# Altium footprint library ProtoStack_H750VBT.PcbLib: 87 footprints (part 5 of 6)
Each footprint in its own frame and in the unit in brackets; x right, y up, seen from the top. Pads: shape width x height; smd on the part's side, far side on the other; paste and mask are expansions set on the pad; w line width, h text height; cw(c..) or ccw(c..) is an arc to the next point about the centre after c.
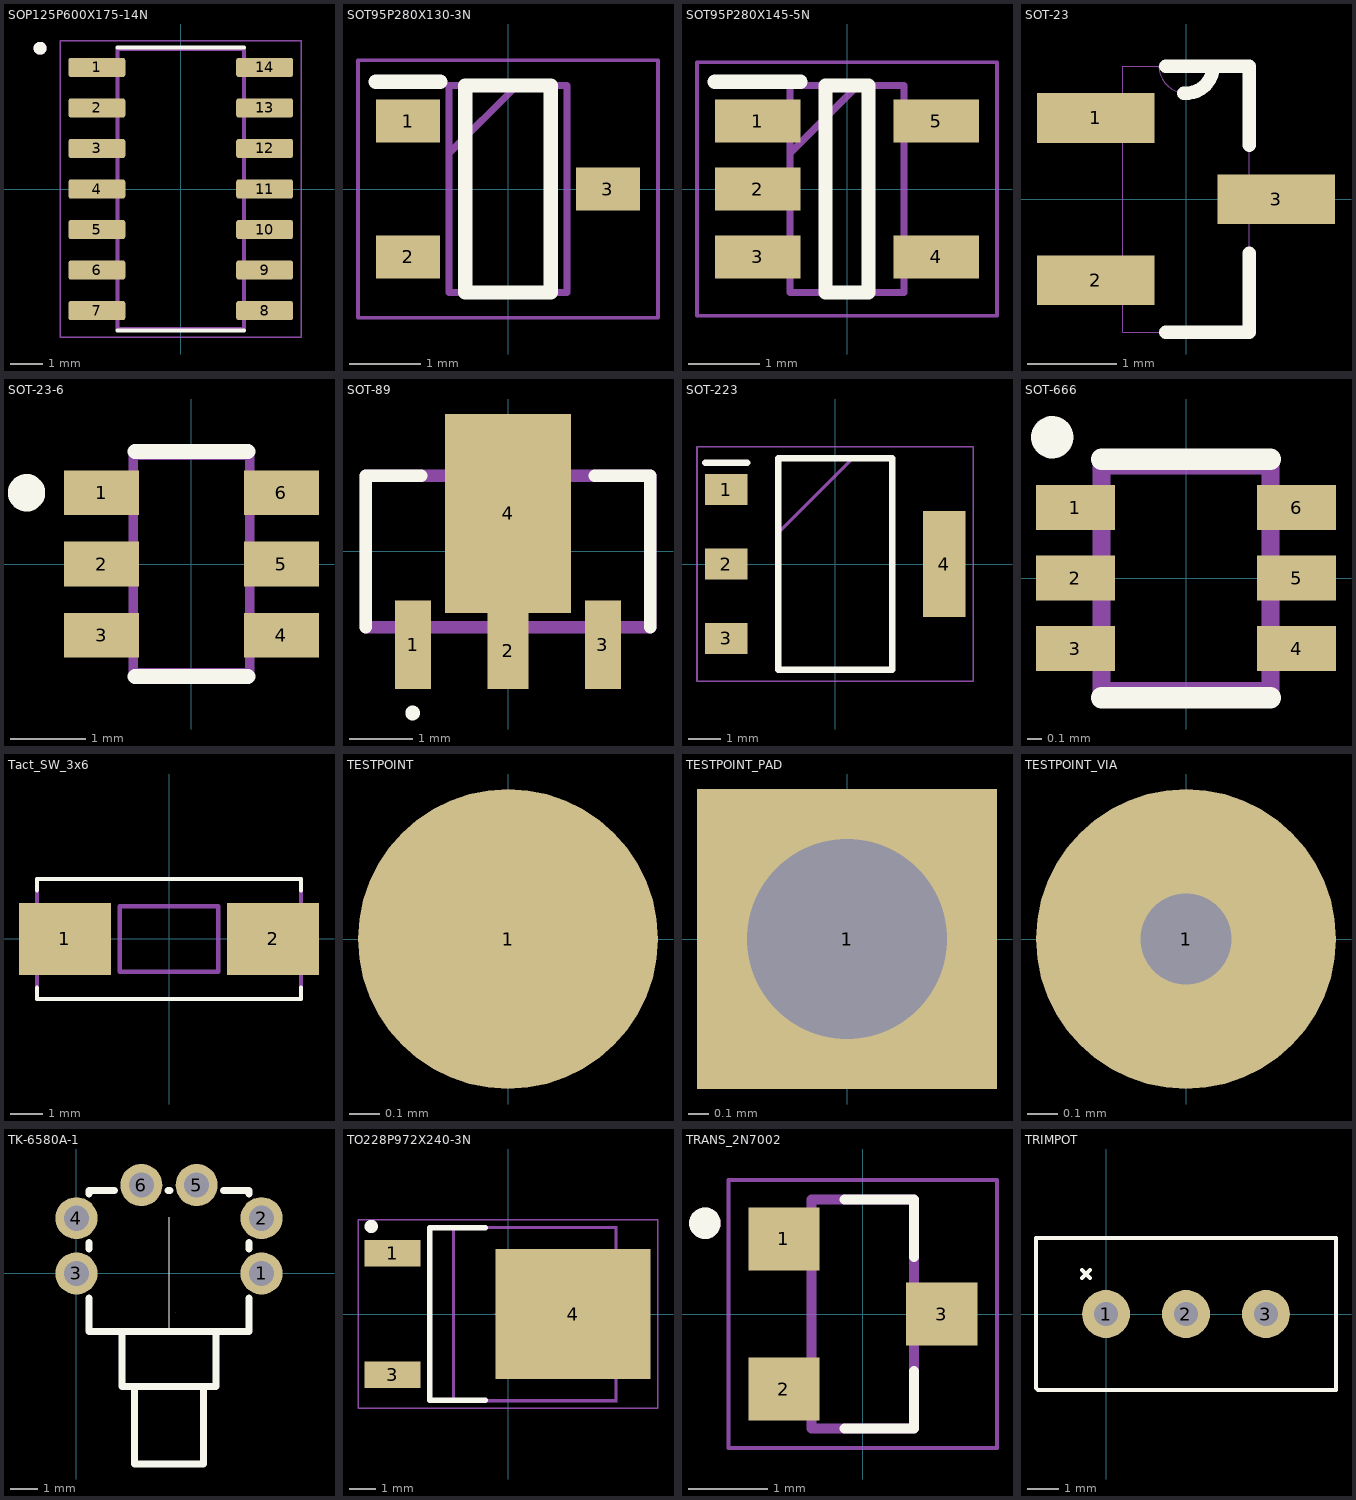
[diagram p4: the footprints below, top view; thin cyan lines are the x and y axes]

## SOP125P600X175-14N [mm]
height 1.75
pads (14):
  rrect25% 1.75x0.59 smd: 1(-2.585,3.75) 2(-2.585,2.5) 3(-2.585,1.25) 4(-2.585,0) 5(-2.585,-1.25) 6(-2.585,-2.5) 7(-2.585,-3.75) 8(2.585,-3.75) 9(2.585,-2.5) 10(2.585,-1.25) 11(2.585,0) 12(2.585,1.25) 13(2.585,2.5) 14(2.585,3.75)
Top Overlay:
  circle w0.2: c-4.335,4.34 r0.1
  lines w0.127: -1.95,-4.365 1.95,-4.365 ; -1.95,4.365 1.95,4.365
Mechanical 13:
  circle w0.2: c-4.335,4.34 r0.1
  lines w0.127: -1.95,-4.325 -1.95,4.325 1.95,4.325 1.95,-4.325 -1.95,-4.325
Mechanical 15:
  lines w0.05: -3.71,-4.575 -3.71,4.575 3.71,4.575 3.71,-4.575 -3.71,-4.575
3D body "step_temp.STEP": height 1.75, standoff 0, extent -3,-4.325 3,4.325

## SOT95P280X130-3N [mm]
pads (3):
  rect 0.9x0.6 smd: 1(-1.4,0.95) 2(-1.4,-0.95) 3(1.4,0)
Top Overlay:
  lines w0.2: -1.85,1.5 -0.95,1.5 ; -0.6,-1.45 0.6,-1.45 0.6,1.45 -0.6,1.45 -0.6,-1.45
Mechanical 13:
  lines w0.1: -0.825,0.5 0.125,1.45 ; -0.825,-1.45 0.825,-1.45 0.825,1.45 -0.825,1.45 -0.825,-1.45
Mechanical 15:
  lines w0.05: -2.1,-1.8 2.1,-1.8 2.1,1.8 -2.1,1.8 -2.1,-1.8
3D body "XC6206P182MR.stp": height 1.3, standoff 0, extent -1.4,-1.45 1.4,1.45

## SOT95P280X145-5N [mm]
pads (5):
  rect 1.2x0.6 smd: 1(-1.25,0.95) 2(-1.25,0) 3(-1.25,-0.95) 4(1.25,-0.95) 5(1.25,0.95)
Top Overlay:
  lines w0.2: -1.85,1.5 -0.65,1.5 ; -0.3,-1.45 0.3,-1.45 0.3,1.45 -0.3,1.45 -0.3,-1.45
Mechanical 13:
  lines w0.1: -0.8,0.5 0.15,1.45 ; -0.8,-1.45 0.8,-1.45 0.8,1.45 -0.8,1.45 -0.8,-1.45
Mechanical 15:
  lines w0.05: -2.1,-1.775 2.1,-1.775 2.1,1.775 -2.1,1.775 -2.1,-1.775
3D body "SN74LVC1G125DBVR.stp": height 1.2, standoff 0, extent -1.4,-1.45 1.4,1.45

## SOT-23 [mil]
pads (3):
  rect 52x22 smd: 1(-40,36) 2(-40,-36) 3(40,0)
Top Overlay:
  lines w6: -9,-59 28,-59 28,-24 ; -9,59 12,59 28,59 28,24 ; -1.04,47 ccw(c0,58.96) 12,58.96
Mechanical 1:
  lines w0: -28,-46 -49,-46 -49,-26 -28,-26 ; -28,-46 -28,-26 ; -28,-46 -28,-59 28,-59 28,-10 ; -28,-26 -28,26 ; -28,26 -49,26 -49,46 -28,46 ; -28,26 -28,46 ; -28,46 -28,59 -12,59 ; -12,59 ccw(c0,59) 12,59 ; -12,59 12,59 ; 12,59 28,59 28,10 ; 28,-10 49,-10 49,10 28,10 ; 28,-10 28,10
3D body "SC-59A.stp": height 57.09, standoff 0, extent -60,-61.02 58.11,61.02

## SOT-23-6 [mm]
pads (6):
  rect 1x0.6 smd: 1(-1.2,0.95) 2(-1.2,0) 3(-1.2,-0.95) 4(1.2,-0.95) 5(1.2,0) 6(1.2,0.95)
Top Overlay:
  circle w0.3: c-2.2,0.95 r0.1
  lines w0.2: -0.75,-1.5 0.75,-1.5 ; -0.75,1.5 0.75,1.5
Mechanical 1:
  region: -0.775,0.774 -1.603,0.774 -1.603,1.128 -0.775,1.128
  region: -0.775,-1.13 -1.603,-1.13 -1.603,-0.773 -0.775,-0.773
  region: -0.775,-0.178 -1.601,-0.178 -1.601,0.178 -0.775,0.178
  region: 0.776,-0.773 1.6,-0.773 1.6,-1.129 0.776,-1.129
  region: 0.775,1.128 1.6,1.128 1.6,0.773 0.775,0.773
  region: 0.775,0.178 1.6,0.178 1.6,-0.178 0.775,-0.178
  lines w0.127: -0.775,-1.45 0.775,-1.45 0.775,1.45 -0.775,1.45 -0.775,-1.45
3D body "SOT23-6.stp": height 1.2, standoff 0.02, extent -1.418,-1.5 1.418,1.5

## SOT-89 [mm]
pads (4):
  rect 0.57x1.4 smd mask+0.051: 1(-1.5,-1.475) 3(1.5,-1.475)
  rect 0.65x1.2 smd mask+0.051: 2(0,-1.575)
  rect 2x3.15 smd mask+0.051: 4(0,0.6)
Top Overlay:
  circle w0.2: c-1.51,-2.558 r0.016
  lines w0.2: -2.25,-1.2 -2.25,1.2 -1.373,1.2 ; 1.373,1.2 2.25,1.2 2.25,-1.2
Mechanical 13:
  lines w0.2: -2.25,-1.2 2.25,-1.2 2.25,1.2 -2.25,1.2 -2.25,-1.2
3D body "LND150N8-G--3DModel-STEP-56544.STEP": height 1.61, standoff 0.01, extent -2.25,-2.046 2.25,2.049

## SOT-223 [mm]
pads (4):
  rect 1.3x0.95 smd: 1(-3.35,2.29) 2(-3.35,0) 3(-3.35,-2.29)
  rect 1.3x3.25 smd: 4(3.35,0)
Top Overlay:
  lines w0.2: -4,3.115 -2.7,3.115 ; -1.752,-3.252 -1.752,3.252 1.752,3.252 1.752,-3.252 -1.752,-3.252
Mechanical 13:
  lines w0.1: -1.752,0.962 0.538,3.252 ; -1.752,-3.252 -1.752,3.252 1.752,3.252 1.752,-3.252 -1.752,-3.252
Mechanical 15:
  lines w0.05: -4.25,-3.605 -4.25,3.605 4.25,3.605 4.25,-3.605 -4.25,-3.605
3D body "ams1117-3.3v.stp": height 1.8, standoff 0, extent -3.5,-3.253 3.5,3.253

## SOT-666 [mm]
pads (6):
  rect 0.56x0.32 smd mask+0.025: 1(-0.785,0.5) 2(-0.785,0) 3(-0.785,-0.5) 4(0.785,-0.5) 5(0.785,0) 6(0.785,0.5)
Top Overlay:
  circle w0.2: c-0.95,1 r0.05
  lines w0.15: -0.6,-0.85 0.6,-0.85 ; -0.6,0.844 0.6,0.844
Mechanical 1:
  region: -0.853,0.625 -0.625,0.625 -0.625,0.376 -0.853,0.376
  region: -0.853,0.126 -0.626,0.126 -0.626,-0.126 -0.853,-0.126
  region: -0.853,-0.375 -0.626,-0.375 -0.626,-0.628 -0.853,-0.628
  region: 0.85,-0.627 0.628,-0.627 0.628,-0.375 0.85,-0.375
  region: 0.85,-0.125 0.628,-0.125 0.628,0.125 0.85,0.125
  region: 0.85,0.376 0.626,0.376 0.626,0.625 0.85,0.625
  lines w0.127: -0.6,-0.8 -0.6,0.8 0.6,0.8 0.6,-0.8 -0.6,-0.8
3D body: height 0.6, standoff 0, extent -0.6,-0.8 0.6,0.8

## Tact_SW_3x6 [mm]
pads (2):
  rect 2.8x2.2 smd: 1(-3.175,0) 2(3.175,0)
Top Overlay:
  lines w0.127: -4.026,-1.486 -4.026,-1.829 4.023,-1.831 4.023,-1.483 ; -4.026,1.486 -4.026,1.829 4.023,1.826 4.023,1.483
Mechanical 1:
  lines w0.127: -4.026,-1.829 4.026,-1.829 4.026,1.829 -4.026,1.829 -4.026,-1.829 ; -1.5,-1 -1.5,1 1.5,1 1.5,-1 -1.5,-1
3D body "Tactile_SMD_3x6x2.5mm.STEP": height 2.51, standoff 0, extent -4.026,-1.829 4.026,1.829

## TESTPOINT [mm]
pads (1):
  round 1 / inner round 0 / far side round 0 all layers, no hole mask+0.05: 1(0,0)

## TESTPOINT_PAD [mm]
pads (1):
  rect 1.5x1.5 hole 1: 1(0,0)

## TESTPOINT_VIA [mm]
pads (1):
  round 1 / inner round 1 / far side round 0 all layers, no hole mask+0.102: 1(0,0)
via 0,0 diameter 0.6 hole 0.305

## TK-6580A-1 [mil] "Pushbutton switch"
pads (6):
  round 60 hole 36 paste-99999 mask+2: 1(263.78,0) 2(263.78,78.74) 3(0,0) 4(0,78.74) 5(171.26,125.98) 6(92.52,125.98)
Top Overlay:
  lines w1: 130,-82.68 131.89,-82.68 131.89,80
  lines w10: 17.72,-34.84 17.72,-82.68 246.06,-82.68 246.06,-34.84 ; 17.72,34.84 17.72,43.9 ; 17.72,113.58 17.72,118.11 54.22,118.11 ; 64.96,-82.68 64.96,-161.42 198.82,-161.42 198.82,-82.68 ; 82.68,-161.42 82.68,-271.65 181.1,-271.65 181.1,-161.42 ; 130.82,118.11 132.96,118.11 ; 209.56,118.11 246.06,118.11 246.06,113.58 ; 246.06,34.84 246.06,43.9
Mechanical 15:
  lines w0.1: 140.66,-55.32 140.68,-55.3
3D body "SW-MHPS2266.stp": height 316.85, standoff 80.63, extent 17.56,-290.59 253.78,260.59

## TO228P972X240-3N [mm]
pads (3):
  rect 2.1x1 smd: 1(-4.35,2.28) 3(-4.35,-2.28)
  rect 5.85x4.9 smd: 4(2.45,0)
Top Overlay:
  circle w0.25: c-5.15,3.3 r0.125
  lines w0.2: -0.85,-3.25 -2.95,-3.25 -2.95,3.25 -0.85,3.25
Mechanical 13:
  lines w0.1: 4.062,-2.35 4.326,-2.35 4.863,-1.756 4.863,1.756 4.327,2.35 4.063,2.35 ; -2.037,-3.25 -2.037,3.25 4.062,3.25 4.062,-3.25 -2.037,-3.25
Mechanical 15:
  circle w0.05: c0,0 r0.35
  lines w0.001: -2.088,-3.3 -2.088,3.3 4.112,3.3 4.112,-3.3 -2.088,-3.3
  lines w0.05: -0.5,0 0.5,0 ; 0,-0.5 0,0.5 ; -5.65,-3.55 -5.65,3.55 5.65,3.55 5.65,-3.55 -5.65,-3.55
3D body "LD1117DT33TR.stp": height 2.3, standoff 0, extent -4.966,-3.3 4.56,3.3

## TRANS_2N7002 [mm]
height 1.2
pads (3):
  rect 0.9x0.8 smd paste+0 mask+0.102: 1(-1,0.95) 2(-1,-0.95) 3(1,0)
Top Overlay:
  circle w0.2: c-2,1.15 r0.1
  lines w0.127: -0.23,-1.45 0.65,-1.45 0.65,-0.72 ; -0.23,1.45 0.65,1.45 0.65,0.72
Mechanical 13:
  circle w0.2: c-2,1.15 r0.1
  lines w0.127: -0.65,-1.45 -0.65,1.45 0.65,1.45 0.65,-1.45 -0.65,-1.45
Mechanical 15:
  lines w0.05: -1.7,-1.7 -1.7,1.7 1.7,1.7 1.7,-1.7 -1.7,-1.7
3D body "step_temp.STEP": height 1.2, standoff 0, extent -1.2,-1.45 1.2,1.45

## TRIMPOT [mil]
pads (3):
  round 60 hole 30: 1(0,0) 2(100,0) 3(200,0)
Top Overlay:
  lines w5: -30,45 -20,55 ; -30,55 -20,45 ; -87.59,-92.41 -84.93,-95.07 287.6,-95.07 287.6,95.08 -87.59,95.08 -87.59,-92.41
3D body "Trimpot_3296W.SLDPRT": height 454.72, standoff -102.36, extent -87.59,-95.07 287.6,95.08